# EAGLE library part OWN_PARTS2_MAX202ECWE (library ToWellPower_Logic)
RS232 TRANSCEIVER
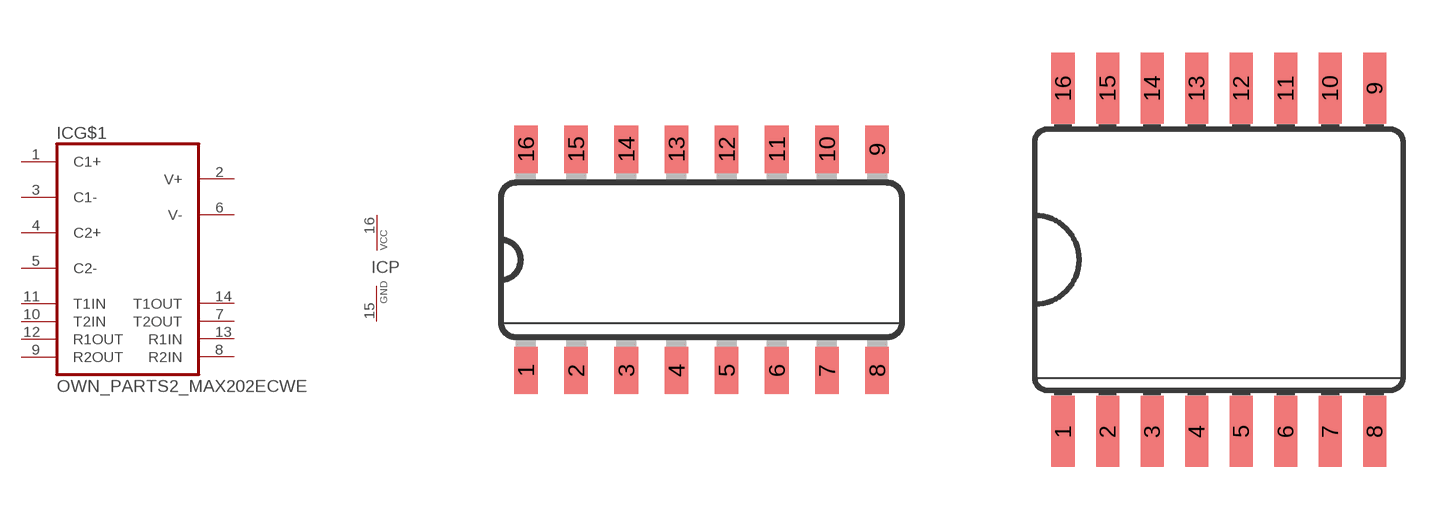
[diagram p3: symbol with the pads of OWN_PARTS2_SO16; footprints OWN_PARTS2_SO16, OWN_PARTS2_SO16L]

Designator prefix IC; gates G$1=OWN_PARTS2_MAX232 P=OWN_PARTS2_VCC-GND

## OWN_PARTS2_MAX202ECWESO16  [OWN_PARTS2_SO16]
1  G$1:C1+
2  G$1:V+
3  G$1:C1-
4  G$1:C2+
5  G$1:C2-
6  G$1:V-
7  G$1:T2OUT  out
8  G$1:R2IN  in
9  G$1:R2OUT  out
10  G$1:T2IN  in
11  G$1:T1IN  in
12  G$1:R1OUT  out
13  G$1:R1IN  in
14  G$1:T1OUT  out
15  P:GND  pwr
16  P:VCC  pwr

## OWN_PARTS2_MAX202ECWESO16L (MPN: MAX202ECWE+T; OC_FARNELL: 9724419; OC_NEWARK: 67K4364)  [OWN_PARTS2_SO16L]
Pads as for OWN_PARTS2_SO16

## Footprint OWN_PARTS2_SO16 (pad centres in mm)
Small Outline package 150 mil
smd 0.6 x 1.2: 1 -4.445,-2.8; 2 -3.175,-2.8; 3 -1.905,-2.8; 4 -0.635,-2.8; 5 0.635,-2.8; 6 1.905,-2.8; 7 3.175,-2.8; 8 4.445,-2.8; 9 4.445,2.8; 10 3.175,2.8; 11 1.905,2.8; 12 0.635,2.8; 13 -0.635,2.8; 14 -1.905,2.8; 15 -3.175,2.8; 16 -4.445,2.8

## Footprint OWN_PARTS2_SO16L (pad centres in mm)
Small Outline Package .300 SIOC Source: http://www.maxim-ic.com/cgi-bin/packages?pkg=16%2FSOIC%2E300&Type=Max
smd 0.66 x 2.032: 1 -4.445,-4.902; 2 -3.175,-4.902; 3 -1.905,-4.902; 4 -0.635,-4.902; 5 0.635,-4.902; 6 1.905,-4.902; 7 3.175,-4.902; 8 4.445,-4.902; 9 4.445,4.902; 10 3.175,4.902; 11 1.905,4.902; 12 0.635,4.902; 13 -0.635,4.902; 14 -1.905,4.902; 15 -3.175,4.902; 16 -4.445,4.902